# Altium footprint library BAT_BC9VPC.PcbLib: 1 footprints
Each footprint in its own frame and in the unit in brackets; x right, y up, seen from the top. Pads: shape width x height; smd on the part's side, far side on the other; paste and mask are expansions set on the pad; w line width, h text height; cw(c..) or ccw(c..) is an arc to the next point about the centre after c.
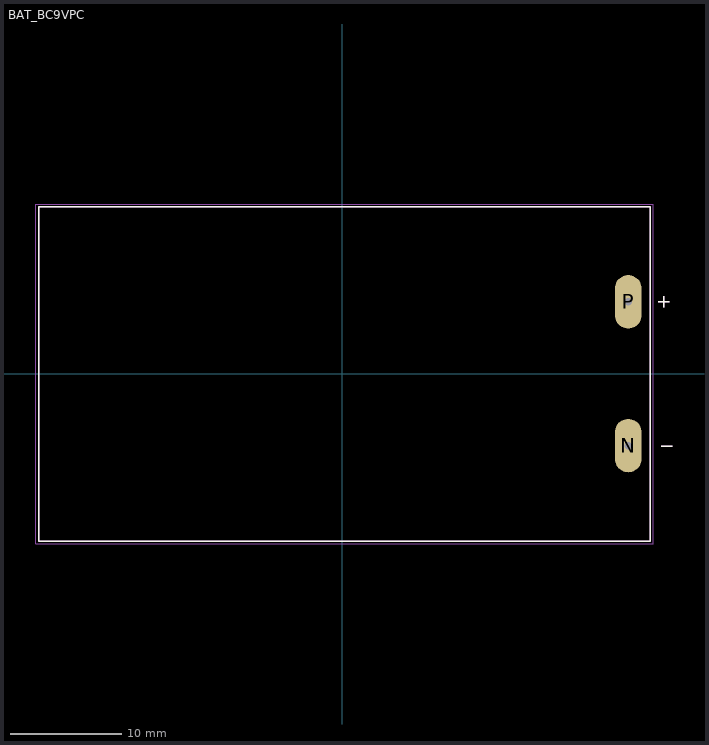
[diagram p0: the footprint, top view; thin cyan lines are the x and y axes]

## BAT_BC9VPC [mil]
pads (2):
  oval 94.88x189.76 hole 26 square: N(1015,-255) P(1015,255)
Top Overlay:
  lines w5: 1121.55,254.99 1160.92,254.99 ; 1131.39,-256.82 1170.76,-256.82 ; 1141.24,235.31 1141.24,274.68 ; -1077,-594 1093,-594 1093,592 -1077,592 -1077,-594
Mechanical 13:
  lines w5: 1121.55,254.99 1160.92,254.99 ; 1131.39,-256.82 1170.76,-256.82 ; 1141.24,235.31 1141.24,274.68 ; -1077,-594 1093,-594 1093,592 -1077,592 -1077,-594
Mechanical 15:
  lines w1.97: -1086.84,-603.84 1102.84,-603.84 1102.84,601.84 -1086.84,601.84 -1086.84,-603.84
3D body "step_temp.STEP": height 845, standoff -191, extent -1085,-593 1085,593